# EAGLE library part XEF-232-1024-FB374 (library sjg-xmos)
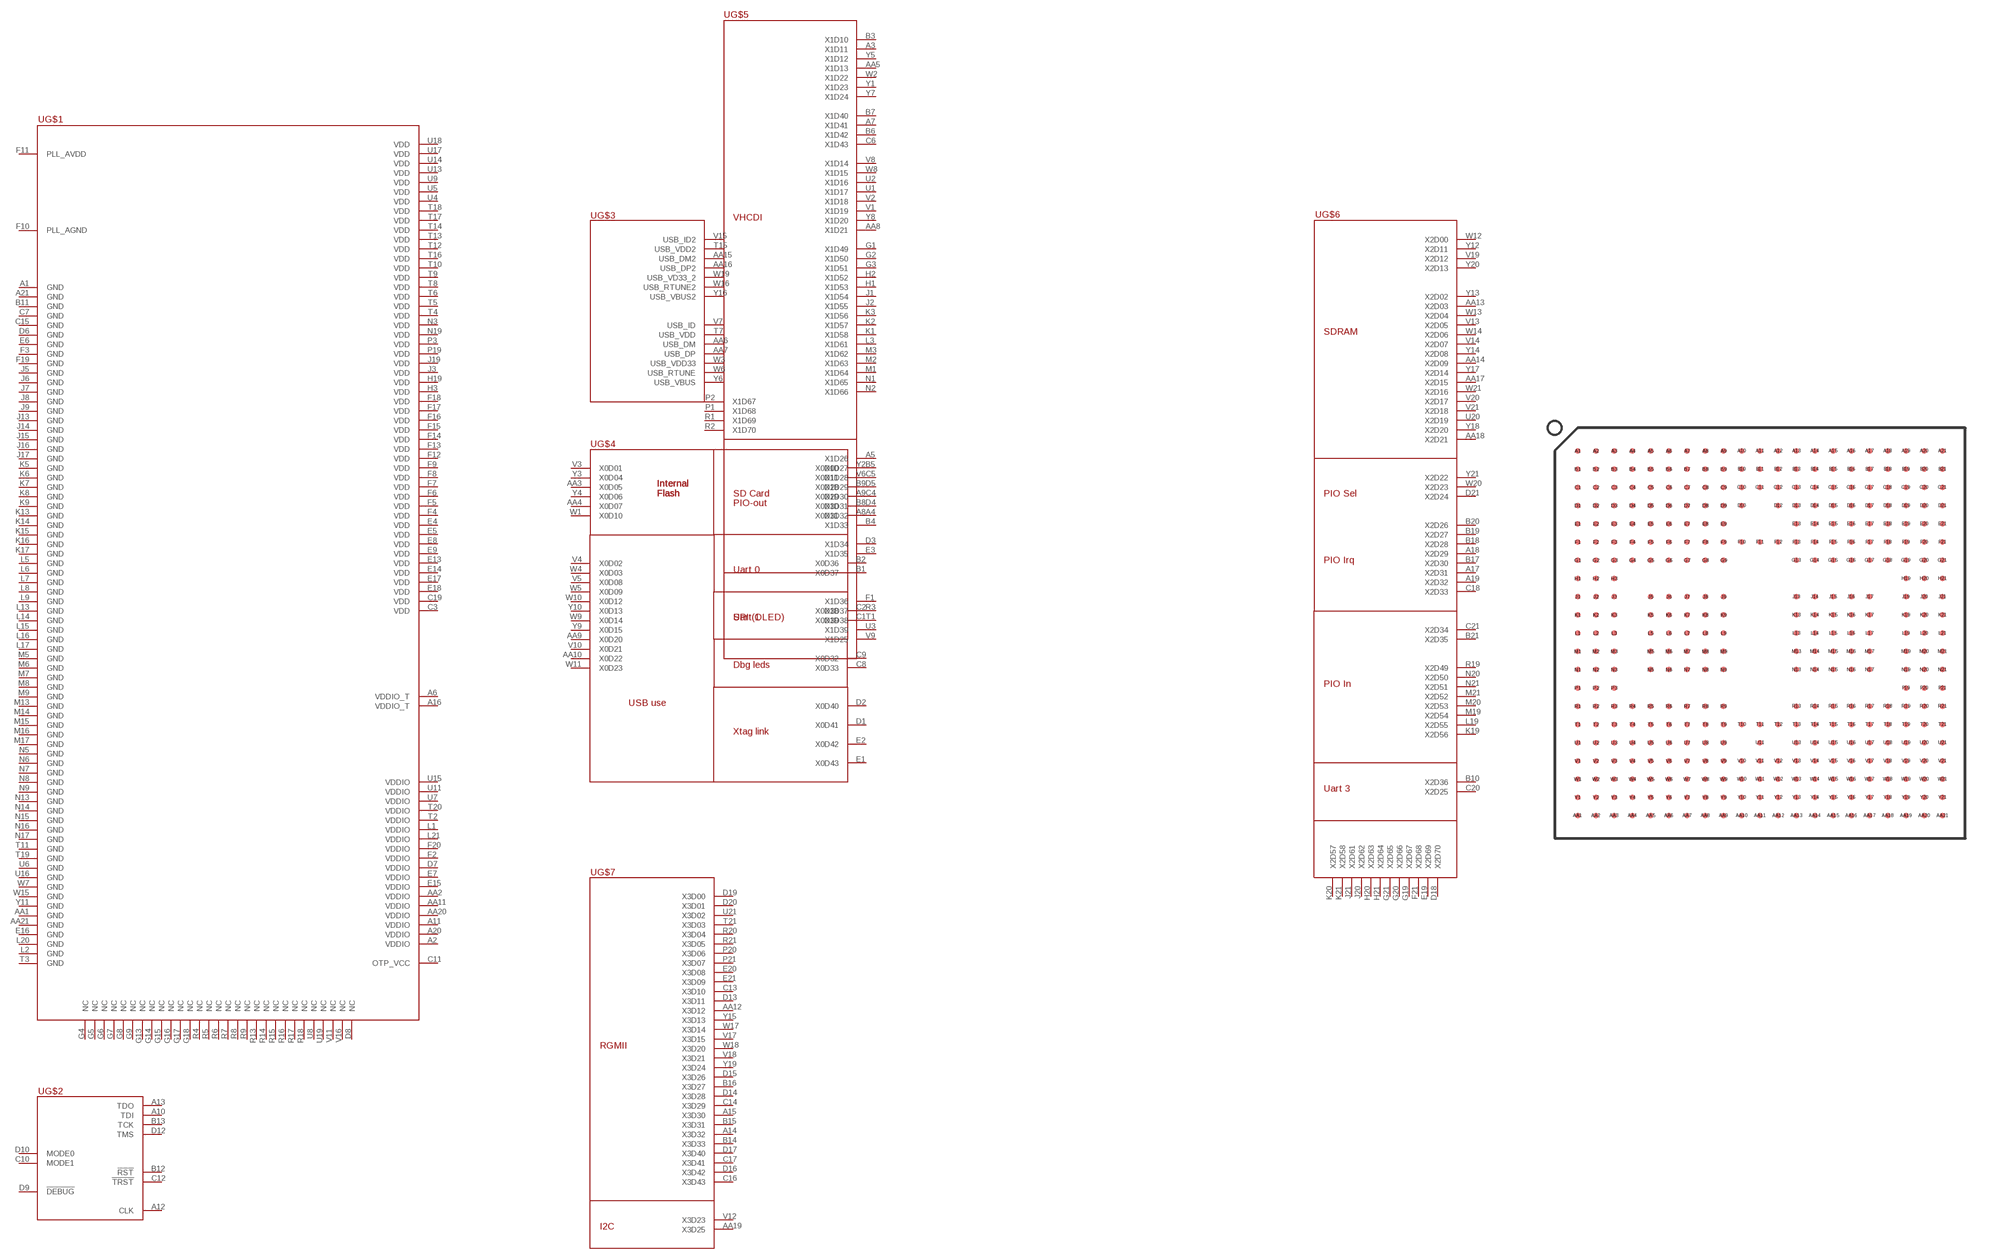
[diagram p4: symbol with the pads of BGA374; footprint BGA374]

Designator prefix -; gates G$1=XEF-232-1024-FB374-PWR G$2=XEF-232-1024-FB374-SYS G$3=XEF-232-1024-FB374-USB G$4=XEF-232-1024-FB374-X0 G$5=XEF-232-1024-FB374-X1 G$6=XEF-232-1024-FB374-X2 G$7=XEF-232-1024-FB374-X3

## XEF-232-1024-FB374  [BGA374]
A1  G$1:GND  pwr
A2  G$1:VDDIO  pwr
A3  G$5:X1D11
A4  G$5:X1D32
A5  G$5:X1D26
A6  G$1:VDDIO_T  pwr
A7  G$5:X1D41
A8  G$4:X0D31
A9  G$4:X0D29
A10  G$2:TDI
A11  G$1:VDDIO  pwr
A12  G$2:CLK
A13  G$2:TDO
A14  G$7:X3D32
A15  G$7:X3D30
A16  G$1:VDDIO_T  pwr
A17  G$6:X2D31
A18  G$6:X2D29
A19  G$6:X2D32
A20  G$1:VDDIO  pwr
A21  G$1:GND  pwr
AA1  G$1:GND  pwr
AA2  G$1:VDDIO  pwr
AA3  G$4:X0D05
AA4  G$4:X0D07
AA5  G$5:X1D13
AA6  G$3:USB_DM
AA7  G$3:USB_DP
AA8  G$5:X1D21
AA9  G$4:X0D20
AA10  G$4:X0D22
AA11  G$1:VDDIO  pwr
AA12  G$7:X3D12
AA13  G$6:X2D03
AA14  G$6:X2D09
AA15  G$3:USB_DM2
AA16  G$3:USB_DP2
AA17  G$6:X2D15
AA18  G$6:X2D21
AA19  G$7:X3D25
AA20  G$1:VDDIO  pwr
AA21  G$1:GND  pwr
B1  G$4:X0D37
B2  G$4:X0D36
B3  G$5:X1D10
B4  G$5:X1D33
B5  G$5:X1D27
B6  G$5:X1D42
B7  G$5:X1D40
B8  G$4:X0D30
B9  G$4:X0D28
B10  G$6:X2D36
B11  G$1:GND  pwr
B12  G$2:!RST!
B13  G$2:TCK
B14  G$7:X3D33
B15  G$7:X3D31
B16  G$7:X3D27
B17  G$6:X2D30
B18  G$6:X2D28
B19  G$6:X2D27
B20  G$6:X2D26
B21  G$6:X2D35
C1  G$4:X0D39
C2  G$4:X0D38
C3  G$1:VDD  pwr
C4  G$5:X1D30
C5  G$5:X1D28
C6  G$5:X1D43
C7  G$1:GND  pwr
C8  G$4:X0D33
C9  G$4:X0D32
C10  G$2:MODE1
C11  G$1:OTP_VCC
C12  G$2:!TRST!
C13  G$7:X3D10
C14  G$7:X3D29
C15  G$1:GND  pwr
C16  G$7:X3D43
C17  G$7:X3D41
C18  G$6:X2D33
C19  G$1:VDD  pwr
C20  G$6:X2D25
C21  G$6:X2D34
D1  G$4:X0D41
D2  G$4:X0D40
D3  G$5:X1D34
D4  G$5:X1D31
D5  G$5:X1D29
D6  G$1:GND  pwr
D7  G$1:VDDIO  pwr
D8  G$1:NC  nc
D9  G$2:!DEBUG!
D10  G$2:MODE0
D12  G$2:TMS
D13  G$7:X3D11
D14  G$7:X3D28
D15  G$7:X3D26
D16  G$7:X3D42
D17  G$7:X3D40
D18  G$6:X2D70
D19  G$7:X3D00
D20  G$7:X3D01
D21  G$6:X2D24
E1  G$4:X0D43
E2  G$4:X0D42
E3  G$5:X1D35
E4  G$1:VDD  pwr
E5  G$1:VDD  pwr
E6  G$1:GND  pwr
E7  G$1:VDDIO  pwr
E8  G$1:VDD  pwr
E9  G$1:VDD  pwr
E13  G$1:VDD  pwr
E14  G$1:VDD  pwr
E15  G$1:VDDIO  pwr
E16  G$1:GND  pwr
E17  G$1:VDD  pwr
E18  G$1:VDD  pwr
E19  G$6:X2D69
E20  G$7:X3D08
E21  G$7:X3D09
F1  G$5:X1D36
F2  G$1:VDDIO  pwr
F3  G$1:GND  pwr
F4  G$1:VDD  pwr
F5  G$1:VDD  pwr
F6  G$1:VDD  pwr
F7  G$1:VDD  pwr
F8  G$1:VDD  pwr
F9  G$1:VDD  pwr
F10  G$1:PLL_AGND
F11  G$1:PLL_AVDD
F12  G$1:VDD  pwr
F13  G$1:VDD  pwr
F14  G$1:VDD  pwr
F15  G$1:VDD  pwr
F16  G$1:VDD  pwr
F17  G$1:VDD  pwr
F18  G$1:VDD  pwr
F19  G$1:GND  pwr
F20  G$1:VDDIO  pwr
F21  G$6:X2D68
G1  G$5:X1D49
G2  G$5:X1D50
G3  G$5:X1D51
G4  G$1:NC  nc
G5  G$1:NC  nc
G6  G$1:NC  nc
G7  G$1:NC  nc
G8  G$1:NC  nc
G9  G$1:NC  nc
G13  G$1:NC  nc
G14  G$1:NC  nc
G15  G$1:NC  nc
G16  G$1:NC  nc
G17  G$1:NC  nc
G18  G$1:NC  nc
G19  G$6:X2D67
G20  G$6:X2D66
G21  G$6:X2D65
H1  G$5:X1D53
H2  G$5:X1D52
H3  G$1:VDD  pwr
H19  G$1:VDD  pwr
H20  G$6:X2D63
H21  G$6:X2D64
J1  G$5:X1D54
J2  G$5:X1D55
J3  G$1:VDD  pwr
J5  G$1:GND  pwr
J6  G$1:GND  pwr
J7  G$1:GND  pwr
J8  G$1:GND  pwr
J9  G$1:GND  pwr
J13  G$1:GND  pwr
J14  G$1:GND  pwr
J15  G$1:GND  pwr
J16  G$1:GND  pwr
J17  G$1:GND  pwr
J19  G$1:VDD  pwr
J20  G$6:X2D62
J21  G$6:X2D61
K1  G$5:X1D58
K2  G$5:X1D57
K3  G$5:X1D56
K5  G$1:GND  pwr
K6  G$1:GND  pwr
K7  G$1:GND  pwr
K8  G$1:GND  pwr
K9  G$1:GND  pwr
K13  G$1:GND  pwr
K14  G$1:GND  pwr
K15  G$1:GND  pwr
K16  G$1:GND  pwr
K17  G$1:GND  pwr
K19  G$6:X2D56
K20  G$6:X2D57
K21  G$6:X2D58
L1  G$1:VDDIO  pwr
L2  G$1:GND  pwr
L3  G$5:X1D61
L5  G$1:GND  pwr
L6  G$1:GND  pwr
L7  G$1:GND  pwr
L8  G$1:GND  pwr
L9  G$1:GND  pwr
L13  G$1:GND  pwr
L14  G$1:GND  pwr
L15  G$1:GND  pwr
L16  G$1:GND  pwr
L17  G$1:GND  pwr
L19  G$6:X2D55
L20  G$1:GND  pwr
L21  G$1:VDDIO  pwr
M1  G$5:X1D64
M2  G$5:X1D63
M3  G$5:X1D62
M5  G$1:GND  pwr
M6  G$1:GND  pwr
M7  G$1:GND  pwr
M8  G$1:GND  pwr
M9  G$1:GND  pwr
M13  G$1:GND  pwr
M14  G$1:GND  pwr
M15  G$1:GND  pwr
M16  G$1:GND  pwr
M17  G$1:GND  pwr
M19  G$6:X2D54
M20  G$6:X2D53
M21  G$6:X2D52
N1  G$5:X1D65
N2  G$5:X1D66
N3  G$1:VDD  pwr
N5  G$1:GND  pwr
N6  G$1:GND  pwr
N7  G$1:GND  pwr
N8  G$1:GND  pwr
N9  G$1:GND  pwr
N13  G$1:GND  pwr
N14  G$1:GND  pwr
N15  G$1:GND  pwr
N16  G$1:GND  pwr
N17  G$1:GND  pwr
N19  G$1:VDD  pwr
N20  G$6:X2D50
N21  G$6:X2D51
P1  G$5:X1D68
P2  G$5:X1D67
P3  G$1:VDD  pwr
P19  G$1:VDD  pwr
P20  G$7:X3D06
P21  G$7:X3D07
R1  G$5:X1D69
R2  G$5:X1D70
R3  G$5:X1D37
R4  G$1:NC  nc
R5  G$1:NC  nc
R6  G$1:NC  nc
R7  G$1:NC  nc
R8  G$1:NC  nc
R9  G$1:NC  nc
R13  G$1:NC  nc
R14  G$1:NC  nc
R15  G$1:NC  nc
R16  G$1:NC  nc
R17  G$1:NC  nc
R18  G$1:NC  nc
R19  G$6:X2D49
R20  G$7:X3D04
R21  G$7:X3D05
T1  G$5:X1D38
T2  G$1:VDDIO  pwr
T3  G$1:GND  pwr
T4  G$1:VDD  pwr
T5  G$1:VDD  pwr
T6  G$1:VDD  pwr
T7  G$3:USB_VDD
T8  G$1:VDD  pwr
T9  G$1:VDD  pwr
T10  G$1:VDD  pwr
T11  G$1:GND  pwr
T12  G$1:VDD  pwr
T13  G$1:VDD  pwr
T14  G$1:VDD
T15  G$3:USB_VDD2
T16  G$1:VDD  pwr
T17  G$1:VDD  pwr
T18  G$1:VDD  pwr
T19  G$1:GND  pwr
T20  G$1:VDDIO  pwr
T21  G$7:X3D03
U1  G$5:X1D17
U2  G$5:X1D16
U3  G$5:X1D39
U4  G$1:VDD  pwr
U5  G$1:VDD  pwr
U6  G$1:GND  pwr
U7  G$1:VDDIO  pwr
U8  G$1:NC  nc
U9  G$1:VDD  pwr
U11  G$1:VDDIO  pwr
U13  G$1:VDD  pwr
U14  G$1:VDD  pwr
U15  G$1:VDDIO  pwr
U16  G$1:GND  pwr
U17  G$1:VDD  pwr
U18  G$1:VDD  pwr
U19  G$1:NC  nc
U20  G$6:X2D19
U21  G$7:X3D02
V1  G$5:X1D19
V2  G$5:X1D18
V3  G$4:X0D01
V4  G$4:X0D02
V5  G$4:X0D08
V6  G$4:X0D11
V7  G$3:USB_ID
V8  G$5:X1D14
V9  G$5:X1D25
V10  G$4:X0D21
V11  G$1:NC  nc
V12  G$7:X3D23
V13  G$6:X2D05
V14  G$6:X2D07
V15  G$3:USB_ID2
V16  G$1:NC  nc
V17  G$7:X3D15
V18  G$7:X3D21
V19  G$6:X2D12
V20  G$6:X2D17
V21  G$6:X2D18
W1  G$4:X0D10
W2  G$5:X1D22
W3  G$3:USB_VDD33
W4  G$4:X0D03
W5  G$4:X0D09
W6  G$3:USB_RTUNE
W7  G$1:GND  pwr
W8  G$5:X1D15
W9  G$4:X0D14
W10  G$4:X0D12
W11  G$4:X0D23
W12  G$6:X2D00
W13  G$6:X2D04
W14  G$6:X2D06
W15  G$1:GND  pwr
W16  G$3:USB_RTUNE2
W17  G$7:X3D14
W18  G$7:X3D20
W19  G$3:USB_VD33_2
W20  G$6:X2D23
W21  G$6:X2D16
Y1  G$5:X1D23
Y2  G$4:X0D00
Y3  G$4:X0D04
Y4  G$4:X0D06
Y5  G$5:X1D12
Y6  G$3:USB_VBUS
Y7  G$5:X1D24
Y8  G$5:X1D20
Y9  G$4:X0D15
Y10  G$4:X0D13
Y11  G$1:GND  pwr
Y12  G$6:X2D11
Y13  G$6:X2D02
Y14  G$6:X2D08
Y15  G$7:X3D13
Y16  G$3:USB_VBUS2
Y17  G$6:X2D14
Y18  G$6:X2D20
Y19  G$7:X3D24
Y20  G$6:X2D13
Y21  G$6:X2D22

## Footprint BGA374 (pad centres in mm)
BGA layout (0.8mm) for XEF-232-1024-BG374
smd 0.25 x 0.25: A1 -8,8; A2 -7.2,8; A3 -6.4,8; A4 -5.6,8; A5 -4.8,8; A6 -4,8; A7 -3.2,8; A8 -2.4,8; A9 -1.6,8; A10 -0.8,8; A11 0,8; A12 0.8,8; A13 1.6,8; A14 2.4,8; A15 3.2,8; A16 4,8; A17 4.8,8; A18 5.6,8; A19 6.4,8; A20 7.2,8; A21 8,8; AA1 -8,-8; AA2 -7.2,-8; AA3 -6.4,-8; AA4 -5.6,-8; AA5 -4.8,-8; AA6 -4,-8; AA7 -3.2,-8; AA8 -2.4,-8; AA9 -1.6,-8; AA10 -0.8,-8; AA11 0,-8; AA12 0.8,-8; AA13 1.6,-8; AA14 2.4,-8; AA15 3.2,-8; AA16 4,-8; AA17 4.8,-8; AA18 5.6,-8; AA19 6.4,-8; AA20 7.2,-8; AA21 8,-8; B1 -8,7.2; B2 -7.2,7.2; B3 -6.4,7.2; B4 -5.6,7.2; B5 -4.8,7.2; B6 -4,7.2; B7 -3.2,7.2; B8 -2.4,7.2; B9 -1.6,7.2; B10 -0.8,7.2; B11 0,7.2; B12 0.8,7.2; B13 1.6,7.2; B14 2.4,7.2; B15 3.2,7.2; B16 4,7.2; B17 4.8,7.2; B18 5.6,7.2; B19 6.4,7.2; B20 7.2,7.2; B21 8,7.2; C1 -8,6.4; C2 -7.2,6.4; C3 -6.4,6.4; C4 -5.6,6.4; C5 -4.8,6.4; C6 -4,6.4; C7 -3.2,6.4; C8 -2.4,6.4; C9 -1.6,6.4; C10 -0.8,6.4; C11 0,6.4; C12 0.8,6.4; C13 1.6,6.4; C14 2.4,6.4; C15 3.2,6.4; C16 4,6.4; C17 4.8,6.4; C18 5.6,6.4; C19 6.4,6.4; C20 7.2,6.4; C21 8,6.4; D1 -8,5.6; D2 -7.2,5.6; D3 -6.4,5.6; D4 -5.6,5.6; D5 -4.8,5.6; D6 -4,5.6; D7 -3.2,5.6; D8 -2.4,5.6; D9 -1.6,5.6; D10 -0.8,5.6; D12 0.8,5.6; D13 1.6,5.6; D14 2.4,5.6; D15 3.2,5.6; D16 4,5.6; D17 4.8,5.6; D18 5.6,5.6; D19 6.4,5.6; D20 7.2,5.6; D21 8,5.6; E1 -8,4.8; E2 -7.2,4.8; E3 -6.4,4.8; E4 -5.6,4.8; E5 -4.8,4.8; E6 -4,4.8; E7 -3.2,4.8; E8 -2.4,4.8; E9 -1.6,4.8; E13 1.6,4.8; E14 2.4,4.8; E15 3.2,4.8; E16 4,4.8; E17 4.8,4.8; E18 5.6,4.8; E19 6.4,4.8; E20 7.2,4.8; E21 8,4.8; F1 -8,4; F2 -7.2,4; F3 -6.4,4; F4 -5.6,4; F5 -4.8,4; F6 -4,4; F7 -3.2,4; F8 -2.4,4; F9 -1.6,4; F10 -0.8,4; F11 0,4; F12 0.8,4; F13 1.6,4; F14 2.4,4; F15 3.2,4; F16 4,4; F17 4.8,4; F18 5.6,4; F19 6.4,4; F20 7.2,4; F21 8,4; G1 -8,3.2; G2 -7.2,3.2; G3 -6.4,3.2; G4 -5.6,3.2; G5 -4.8,3.2; G6 -4,3.2; G7 -3.2,3.2; G8 -2.4,3.2; G9 -1.6,3.2; G13 1.6,3.2; G14 2.4,3.2; G15 3.2,3.2; G16 4,3.2; G17 4.8,3.2; G18 5.6,3.2; G19 6.4,3.2; G20 7.2,3.2; G21 8,3.2; H1 -8,2.4; H2 -7.2,2.4; H3 -6.4,2.4; H19 6.4,2.4; H20 7.2,2.4; H21 8,2.4; J1 -8,1.6; J2 -7.2,1.6; J3 -6.4,1.6; J5 -4.8,1.6; J6 -4,1.6; J7 -3.2,1.6; J8 -2.4,1.6; J9 -1.6,1.6; J13 1.6,1.6; J14 2.4,1.6; J15 3.2,1.6; J16 4,1.6; J17 4.8,1.6; J19 6.4,1.6; J20 7.2,1.6; J21 8,1.6; K1 -8,0.8; K2 -7.2,0.8; K3 -6.4,0.8; K5 -4.8,0.8; K6 -4,0.8; K7 -3.2,0.8; K8 -2.4,0.8; K9 -1.6,0.8; K13 1.6,0.8; K14 2.4,0.8; K15 3.2,0.8; K16 4,0.8; K17 4.8,0.8; K19 6.4,0.8; K20 7.2,0.8; K21 8,0.8; L1 -8,0; L2 -7.2,0; L3 -6.4,0; L5 -4.8,0; L6 -4,0; L7 -3.2,0; L8 -2.4,0; L9 -1.6,0; L13 1.6,0; L14 2.4,0; L15 3.2,0; L16 4,0; L17 4.8,0; L19 6.4,0; L20 7.2,0; L21 8,0; M1 -8,-0.8; M2 -7.2,-0.8; M3 -6.4,-0.8; M5 -4.8,-0.8; M6 -4,-0.8; M7 -3.2,-0.8; M8 -2.4,-0.8; M9 -1.6,-0.8; M13 1.6,-0.8; M14 2.4,-0.8; M15 3.2,-0.8; M16 4,-0.8; M17 4.8,-0.8; M19 6.4,-0.8; M20 7.2,-0.8; M21 8,-0.8; N1 -8,-1.6; N2 -7.2,-1.6; N3 -6.4,-1.6; N5 -4.8,-1.6; N6 -4,-1.6; N7 -3.2,-1.6; N8 -2.4,-1.6; N9 -1.6,-1.6; N13 1.6,-1.6; N14 2.4,-1.6; N15 3.2,-1.6; N16 4,-1.6; N17 4.8,-1.6; N19 6.4,-1.6; N20 7.2,-1.6; N21 8,-1.6; P1 -8,-2.4; P2 -7.2,-2.4; P3 -6.4,-2.4; P19 6.4,-2.4; P20 7.2,-2.4; P21 8,-2.4; R1 -8,-3.2; R2 -7.2,-3.2; R3 -6.4,-3.2; R4 -5.6,-3.2; R5 -4.8,-3.2; R6 -4,-3.2; R7 -3.2,-3.2; R8 -2.4,-3.2; R9 -1.6,-3.2; R13 1.6,-3.2; R14 2.4,-3.2; R15 3.2,-3.2; R16 4,-3.2; R17 4.8,-3.2; R18 5.6,-3.2; R19 6.4,-3.2; R20 7.2,-3.2; R21 8,-3.2; T1 -8,-4; T2 -7.2,-4; T3 -6.4,-4; T4 -5.6,-4; T5 -4.8,-4; T6 -4,-4; T7 -3.2,-4; T8 -2.4,-4; T9 -1.6,-4; T10 -0.8,-4; T11 0,-4; T12 0.8,-4; T13 1.6,-4; T14 2.4,-4; T15 3.2,-4; T16 4,-4; T17 4.8,-4; T18 5.6,-4; T19 6.4,-4; T20 7.2,-4; T21 8,-4; U1 -8,-4.8; U2 -7.2,-4.8; U3 -6.4,-4.8; U4 -5.6,-4.8; U5 -4.8,-4.8; U6 -4,-4.8; U7 -3.2,-4.8; U8 -2.4,-4.8; U9 -1.6,-4.8; U11 0,-4.8; U13 1.6,-4.8; U14 2.4,-4.8; U15 3.2,-4.8; U16 4,-4.8; U17 4.8,-4.8; U18 5.6,-4.8; U19 6.4,-4.8; U20 7.2,-4.8; U21 8,-4.8; V1 -8,-5.6; V2 -7.2,-5.6; V3 -6.4,-5.6; V4 -5.6,-5.6; V5 -4.8,-5.6; V6 -4,-5.6; V7 -3.2,-5.6; V8 -2.4,-5.6; V9 -1.6,-5.6; V10 -0.8,-5.6; V11 0,-5.6; V12 0.8,-5.6; V13 1.6,-5.6; V14 2.4,-5.6; V15 3.2,-5.6; V16 4,-5.6; V17 4.8,-5.6; V18 5.6,-5.6; V19 6.4,-5.6; V20 7.2,-5.6; V21 8,-5.6; W1 -8,-6.4; W2 -7.2,-6.4; W3 -6.4,-6.4; W4 -5.6,-6.4; W5 -4.8,-6.4; W6 -4,-6.4; W7 -3.2,-6.4; W8 -2.4,-6.4; W9 -1.6,-6.4; W10 -0.8,-6.4; W11 0,-6.4; W12 0.8,-6.4; W13 1.6,-6.4; W14 2.4,-6.4; W15 3.2,-6.4; W16 4,-6.4; W17 4.8,-6.4; W18 5.6,-6.4; W19 6.4,-6.4; W20 7.2,-6.4; W21 8,-6.4; Y1 -8,-7.2; Y2 -7.2,-7.2; Y3 -6.4,-7.2; Y4 -5.6,-7.2; Y5 -4.8,-7.2; Y6 -4,-7.2; Y7 -3.2,-7.2; Y8 -2.4,-7.2; Y9 -1.6,-7.2; Y10 -0.8,-7.2; Y11 0,-7.2; Y12 0.8,-7.2; Y13 1.6,-7.2; Y14 2.4,-7.2; Y15 3.2,-7.2; Y16 4,-7.2; Y17 4.8,-7.2; Y18 5.6,-7.2; Y19 6.4,-7.2; Y20 7.2,-7.2; Y21 8,-7.2